# EAGLE library part CD74HC4051E (library HyTechDevices2)
Texas Instruments CD74HC4051E HIGH-SPEED CMOS LOGIC ANALOG 8 CHANNEL MULTIPLEXER/DEMULTIPLEXER
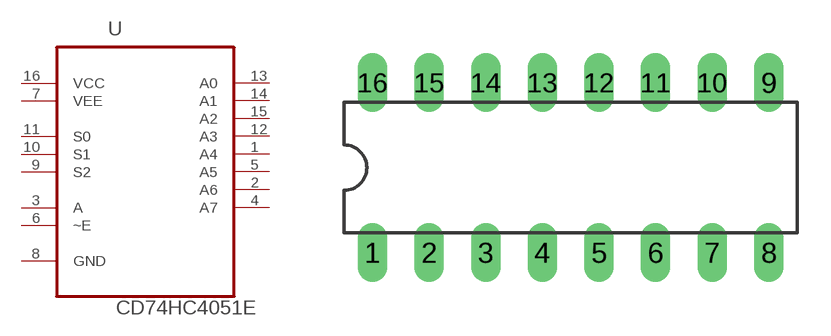
[diagram p39: symbol with the pads of DIL16; footprint DIL16]

Designator prefix -

## CD74HC4051E  [DIL16]
1  A4
2  A6
3  A
4  A7
5  A5
6  ~E  in
7  VEE  pwr
8  GND  pas
9  S2  in
10  S1  in
11  S0  in
12  A3
13  A0
14  A1
15  A2
16  VCC  pwr

## Footprint DIL16 (pad centres in mm)
Dual In Line Package
drill 0.813 long: 1 -8.89,-3.81; 2 -6.35,-3.81; 3 -3.81,-3.81; 4 -1.27,-3.81; 5 1.27,-3.81; 6 3.81,-3.81; 7 6.35,-3.81; 8 8.89,-3.81; 9 8.89,3.81; 10 6.35,3.81; 11 3.81,3.81; 12 1.27,3.81; 13 -1.27,3.81; 14 -3.81,3.81; 15 -6.35,3.81; 16 -8.89,3.81